# Altium footprint library jointbar.PCBLIB: 193 footprints (part 2 of 13)
Each footprint in its own frame and in the unit in brackets; x right, y up, seen from the top. Pads: shape width x height; smd on the part's side, far side on the other; paste and mask are expansions set on the pad; w line width, h text height; cw(c..) or ccw(c..) is an arc to the next point about the centre after c.
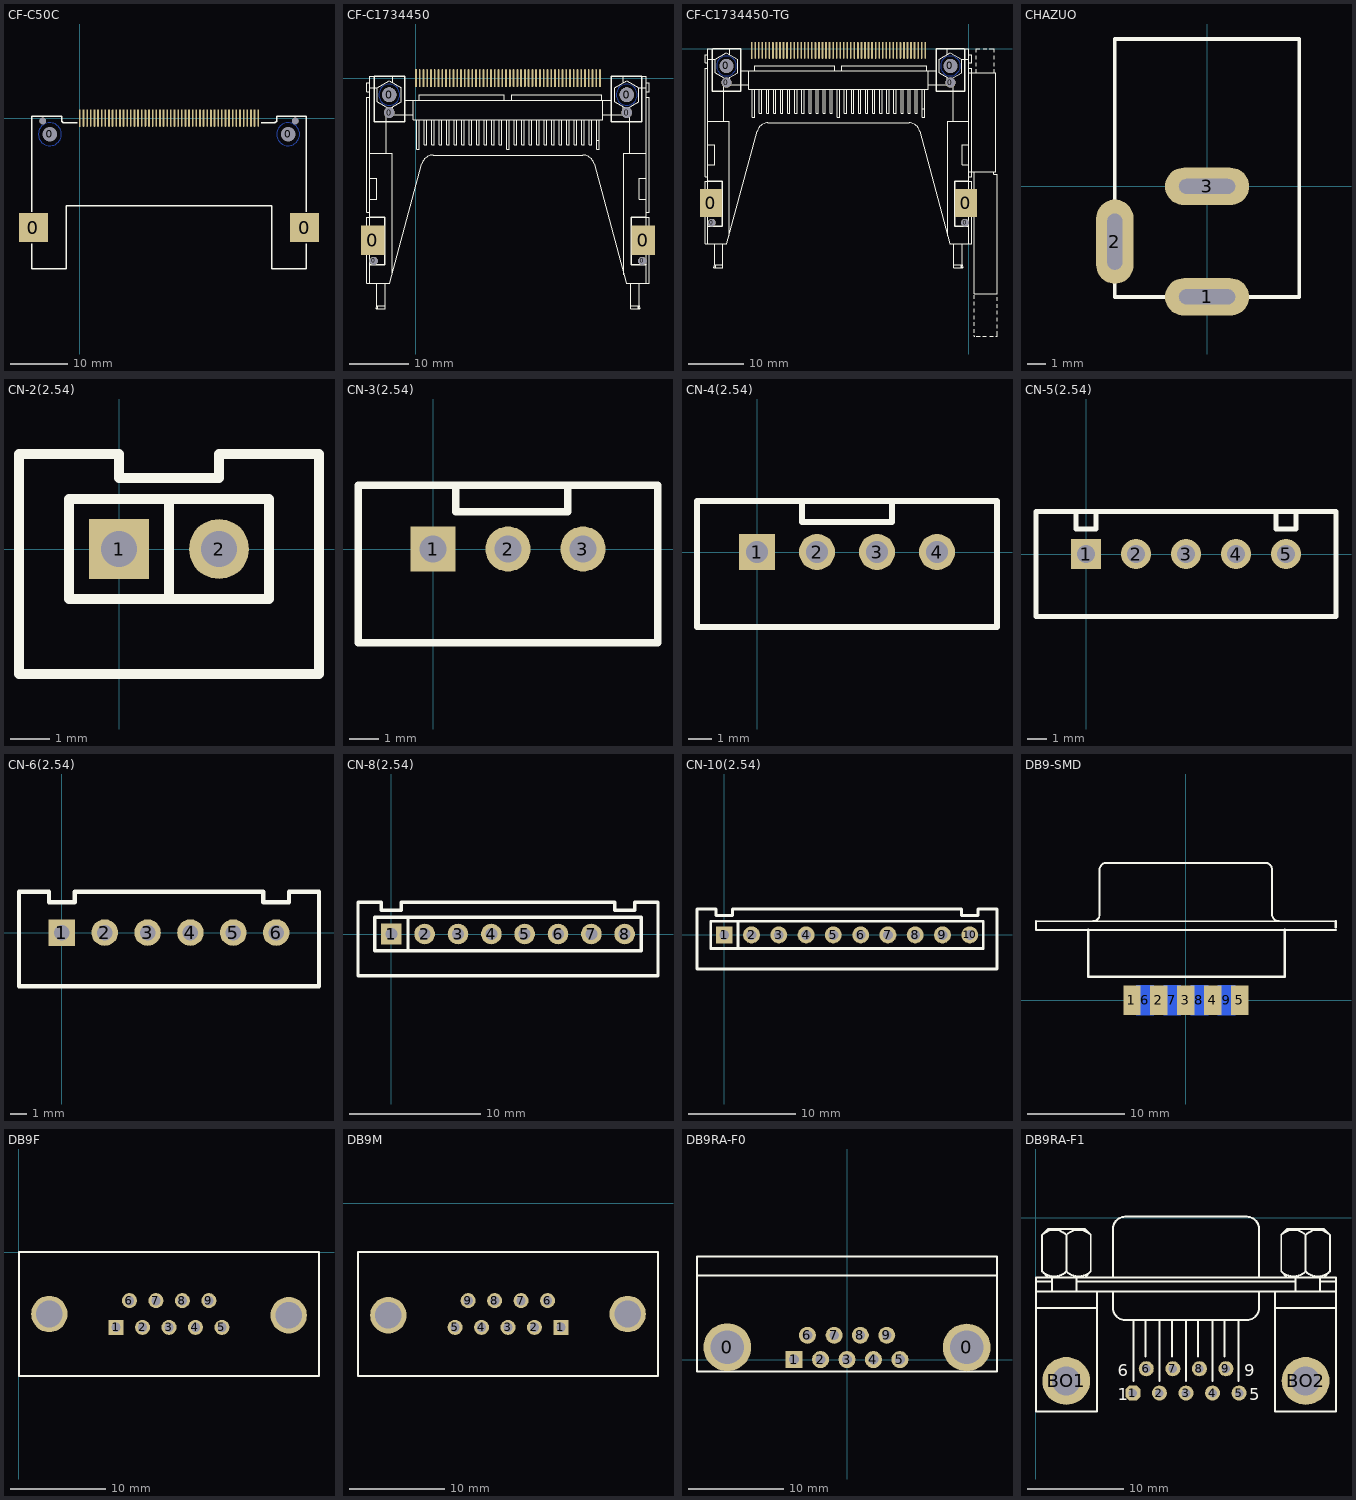
[diagram p1: the footprints below, top view; thin cyan lines are the x and y axes]

## CF-C50C [mil]
pads (56):
  rect 196.85x196.85 smd: 0(-318,-750) 0(1538,-750)
  round 45 hole 45.28: 0(-254,-20) 0(1474,-20)
  round 95 hole 98: 0(-205,-111) 0(1425,-111)
  rect 12x120 smd: 1(0,0)
  oval 12x120 smd: 2(49.81,0) 3(99.63,0) 4(149.44,0) 5(199.26,0) 6(249.07,0) 7(298.89,0) 8(348.7,0) 9(398.52,0) 10(448.33,0) 11(498.15,0) 12(547.97,0) 13(597.78,0) 14(647.6,0) 15(697.41,0) 16(747.23,0) 17(797.04,0) 18(846.86,0) 19(896.67,0) 20(946.49,0) 21(996.3,0) 22(1046.12,0) 23(1095.93,0) 24(1145.74,0) 25(1195.56,0) 26(24.91,0) 27(74.72,0) 28(124.54,0) 29(174.35,0) 30(224.17,0) 31(273.98,0) 32(323.8,0) 33(373.61,0) 34(423.43,0) 35(473.24,0) 36(523.06,0) 37(572.87,0) 38(622.69,0) 39(672.5,0) 40(722.32,0) 41(772.13,0) 42(821.95,0) 43(871.76,0) 44(921.58,0) 45(971.39,0) 46(1021.21,0) 47(1071.02,0) 48(1120.84,0) 49(1170.65,0) 50(1220.47,0)
BottomLayer:
  circle w5: c1425,-111 r78.74
  circle w5: c-205,-111 r78.74
TopOverlay:
  lines w10: -328,-860 -328,-1031.31 -91.78,-1031.31 -91.78,-600.78 1313.73,-600.78 1313.73,-1031.31 1549.95,-1031.31 1549.95,-860 ; -328,-640 -328,12 -124,12 -124,-22 -112,-34 -19,-34 ; 1240.95,-34 1333.95,-34 1345.95,-22 1345.95,12 1549.95,12 1549.95,-640

## CF-C1734450 [mil]
pads (58):
  rect 157.48x196.85 smd: 0(-287.5,-1078.72) 0(1512.82,-1078.72)
  round 55.12 hole 55.12: 0(-281.2,-1216.91) 0(1506.52,-1216.91)
  round 70.87 hole 70.87: 0(-177.89,-228.72) 0(1403.21,-228.72)
  round 95 hole 98: 0(-177.89,-110.61) 0(1403.21,-110.61)
  rect 12x120 smd: 1(0,0)
  oval 12x120 smd: 2(50,0) 3(100,0) 4(150,0) 5(200,0) 6(250,0) 7(300,0) 8(350,0) 9(400,0) 10(450,0) 11(500,0) 12(550,0) 13(600,0) 14(650,0) 15(700,0) 16(750,0) 17(800,0) 18(850,0) 19(900,0) 20(950,0) 21(1000,0) 22(1050,0) 23(1100,0) 24(1150,0) 25(1200,0) 26(25,0) 27(75,0) 28(125,0) 29(175,0) 30(225,0) 31(275,0) 32(325,0) 33(375,0) 34(425,0) 35(475,0) 36(525,0) 37(575,0) 38(625,0) 39(675,0) 40(725,0) 41(775,0) 42(825,0) 43(875,0) 44(925,0) 45(975,0) 46(1025,0) 47(1075,0) 48(1125,0) 49(1175,0) 50(1225,0)
BottomLayer:
  circle w5: c-177.89,-110.61 r70
  circle w5: c1403.21,-110.61 r70
TopOverlay:
  drawing of 189 lines, arcs and shapes, not listed

## CF-C1734450-TG [mil]
pads (58):
  rect 157.48x196.85 smd: 0(-1821.42,-1090.16) 0(-21.1,-1090.16)
  round 55.12 hole 55.12: 0(-1815.12,-1228.35) 0(-27.4,-1228.35)
  round 70.87 hole 70.87: 0(-1711.81,-240.16) 0(-130.71,-240.16)
  round 95 hole 98: 0(-1711.81,-122.05) 0(-130.71,-122.05)
  rect 12x120 smd: 1(-1533.92,-11.44)
  oval 12x120 smd: 2(-1483.92,-11.44) 3(-1433.92,-11.44) 4(-1383.92,-11.44) 5(-1333.92,-11.44) 6(-1283.92,-11.44) 7(-1233.92,-11.44) 8(-1183.92,-11.44) 9(-1133.92,-11.44) 10(-1083.92,-11.44) 11(-1033.92,-11.44) 12(-983.92,-11.44) 13(-933.92,-11.44) 14(-883.92,-11.44) 15(-833.92,-11.44) 16(-783.92,-11.44) 17(-733.92,-11.44) 18(-683.92,-11.44) 19(-633.92,-11.44) 20(-583.92,-11.44) 21(-533.92,-11.44) 22(-483.92,-11.44) 23(-433.92,-11.44) 24(-383.92,-11.44) 25(-333.92,-11.44) 26(-1508.92,-11.44) 27(-1458.92,-11.44) 28(-1408.92,-11.44) 29(-1358.92,-11.44) 30(-1308.92,-11.44) 31(-1258.92,-11.44) 32(-1208.92,-11.44) 33(-1158.92,-11.44) 34(-1108.92,-11.44) 35(-1058.92,-11.44) 36(-1008.92,-11.44) 37(-958.92,-11.44) 38(-908.92,-11.44) 39(-858.92,-11.44) 40(-808.92,-11.44) 41(-758.92,-11.44) 42(-708.92,-11.44) 43(-658.92,-11.44) 44(-608.92,-11.44) 45(-558.92,-11.44) 46(-508.92,-11.44) 47(-458.92,-11.44) 48(-408.92,-11.44) 49(-358.92,-11.44) 50(-308.92,-11.44)
BottomLayer:
  circle w5: c-130.71,-122.05 r70
  circle w5: c-1711.81,-122.05 r70
TopOverlay:
  drawing of 224 lines, arcs and shapes, not listed

## CHAZUO [mil]
pads (3):
  oval 180x80 hole 32.01 slot 120 at 0 deg: 1(-0.02,-236) 3(-0.02,-0.01)
  oval 80x180 hole 32.01 slot 120 at 90 deg: 2(-197.03,-118.01)
TopOverlay:
  lines w8: -39,-236 197,-236 197,315 -197,315 -197,-236 0,-236

## CN-2(2.54) [mil]
pads (2):
  rect 60x60 hole 36: 1(0,0)
  round 60 hole 36: 2(100,0)
TopOverlay:
  lines w10: 50,-50 50,50 ; -100,-125 -100,95 0,95 0,71 100,71 100,95 200,95 200,-125 -100,-125 ; -50,-50 -50,50 150,50 150,-50 -50,-50

## CN-3(2.54) [mil]
pads (3):
  rect 60x60 hole 36: 1(0,0)
  round 60 hole 36: 2(100,0) 3(200,0)
TopOverlay:
  lines w10: 30,85 30,50 180,50 180,85 ; -100,-125 -100,85 300,85 300,-125 -100,-125

## CN-4(2.54) [mil]
pads (4):
  rect 60x60 hole 36: 1(0,0)
  round 60 hole 36: 2(100,0) 3(200,0) 4(300,0)
TopOverlay:
  lines w10: 75,85 75,50 225,50 225,85 ; -100,-125 400,-125 400,85 -100,85 -100,-125

## CN-5(2.54) [mil]
pads (5):
  rect 60x60 hole 36: 1(0,0)
  round 60 hole 36: 2(100,0) 3(200,0) 4(300,0) 5(400,0)
TopOverlay:
  lines w10: -20,85 -20,50 20,50 20,85 ; 380,85 380,50 420,50 420,85 ; -100,-125 500,-125 500,85 -100,85 -100,-125

## CN-6(2.54) [mil]
pads (6):
  rect 62x62 hole 36: 1(0,0)
  round 62 hole 36: 2(100,0) 3(200,0) 4(300,0) 5(400,0) 6(500,0)
TopOverlay:
  lines w10: -100,-125 -100,95 -30,95 -30,71 30,71 30,95 470,95 470,71 530,71 530,95 600,95 600,-125 -100,-125

## CN-8(2.54) [mil]
pads (8):
  rect 62x62 hole 36: 1(0,0)
  round 62 hole 36: 2(100,0) 3(200,0) 4(300,0) 5(400,0) 6(500,0) 7(600,0) 8(700,0)
TopOverlay:
  lines w10: 50,-50 50,50 ; -100,-125 800,-125 800,95 730,95 730,71 670,71 670,95 30,95 30,71 -30,71 -30,95 -100,95 -100,-125 ; -50,-50 750,-50 750,50 -50,50 -50,-50

## CN-10(2.54) [mil]
pads (10):
  rect 62x62 hole 36: 1(0,0)
  round 62 hole 36: 2(100,0) 3(200,0) 4(300,0) 5(400,0) 6(500,0) 7(600,0) 8(700,0) 9(800,0) 10(900,0)
TopOverlay:
  lines w10: 50,-50 50,50 ; -100,-125 -100,95 -30,95 -30,71 30,71 30,95 870,95 870,71 930,71 930,95 1000,95 1000,-125 -100,-125 ; -50,-50 -50,50 950,50 950,-50 -50,-50

## DB9-SMD [mil]
height 100
pads (9):
  rect 70x120 smd: 1(-218.11,-0.04) 2(-109.05,-0.04) 3(0,-0.04) 4(109.06,-0.04) 5(218.11,-0.04)
  rect 70x120 smd far side: 6(-165,0.04) 7(-55,0.04) 8(55,0.04) 9(165,0.04)
TopOverlay:
  lines w7.87: -606.3,320.04 606.3,320.04 ; -605,285.04 607.6,285.04 ; -376.38,320.24 ccw(c-376.38,347.6) -349.02,347.6 -349.02,528.7 ; -348.82,528.9 cw(c-321.46,528.9) -321.46,556.26 321.46,556.26 cw(c321.46,528.9) 348.82,528.9 ; 349.02,528.7 349.02,347.6 ccw(c376.38,347.6) 376.38,320.24
  lines w10: -606.3,320.04 -606.3,286.34 -605,285.04 ; -395,285.04 -395,95.04 400,95.04 400,285.04 ; 606.3,320.04 606.3,296.34 607.6,295.04

## DB9F [mil]
pads (11):
  rect 62x62 hole 38: 1(401,-310)
  round 62 hole 38: 2(510,-310) 3(619,-310) 4(728,-310) 5(837,-310) 6(456,-200) 7(565,-200) 8(674,-200) 9(783,-200)
  round 150 hole 110: ""(126,-255) ""(1112,-260)
TopOverlay:
  lines w8: 1,-510 1237,-510 1237,0 1,0 1,-510

## DB9M [mil]
pads (11):
  rect 62x62 hole 38: 1(1038,-512)
  round 62 hole 38: 2(929,-512) 3(820,-512) 4(711,-512) 5(602,-512) 6(983,-402) 7(874,-402) 8(765,-402) 9(656,-402)
  round 150 hole 110: ""(327,-462) ""(1313,-457)
TopOverlay:
  lines w8: 202,-712 1438,-712 1438,-202 202,-202 202,-712

## DB9RA-F0 [mil]
pads (11):
  round 196.85 hole 137.79: 0(-493,51) 0(493,50)
  rect 70x70 hole 40: 1(-218,0)
  round 70 hole 40: 2(-109,0) 3(0,0) 4(109,0) 5(218,0) 6(-163,100) 7(-53,100) 8(55,100) 9(164,100)
TopOverlay:
  lines w8: -618,346.26 618,346.26 ; -618,-49.35 -618,425 618,425 618,-49.35 -618,-49.35

## DB9RA-F1 [mil]
height 100
pads (11):
  oct 62x62 hole 35: 1(400.26,-720.47)
  round 62 hole 35: 2(509.43,-720.47) 3(618.59,-720.47) 4(727.76,-720.47) 5(836.93,-720.47) 6(455.26,-620.47) 7(564.43,-620.47) 8(673.59,-620.47) 9(782.76,-620.47)
  round 196.67 hole 118.33: BO1(126.09,-670.47) BO2(1110.26,-670.47)
TopOverlay:
  lines w8: 1.93,-370.46 251.93,-370.46 ; 1.93,-303.8 1235.26,-303.8 ; 1.93,-262.13 68.59,-262.13 ; 26.84,-220.55 ccw(c76.93,-170.47) 127.01,-220.55 ; 26.84,-70.38 cw(c76.93,-120.47) 127.01,-70.38 ; 51.93,-245.47 26.93,-220.47 26.93,-70.47 51.93,-45.47 201.93,-45.47 226.93,-70.47 226.93,-220.47 201.93,-245.47 ; 68.59,-303.8 68.59,-245.47 ; 126.84,-220.55 ccw(c176.93,-170.47) 227.01,-220.55 ; 126.84,-70.38 cw(c176.93,-120.47) 227.01,-70.38 ; 126.93,-220.47 126.93,-70.47 ; 168.59,-303.8 168.59,-245.47 ; 168.59,-262.13 1068.59,-262.13 ; 251.93,-303.8 251.93,-795.47 1.93,-795.47 1.93,-245.47 1235.26,-245.47 1235.26,-795.47 985.26,-795.47 985.26,-303.8 ; 318.59,-303.8 318.59,-370.46 ccw(c368.59,-370.46) 368.59,-420.46 868.59,-420.46 ccw(c868.59,-370.46) 918.59,-370.46 918.59,-303.8 ; 318.59,-245.47 318.59,-45.47 cw(c368.59,-45.47) 368.59,4.53 868.59,4.54 cw(c868.59,-45.47) 918.59,-45.47 918.59,-245.47 ; 401.93,-670.47 401.93,-420.46 ; 451.93,-570.47 451.93,-420.46 ; 510.26,-670.47 510.26,-420.46 ; 560.26,-570.47 560.26,-420.46 ; 618.59,-670.47 618.59,-420.46 ; 668.59,-570.47 668.59,-420.46 ; 726.93,-670.47 726.93,-420.46 ; 776.93,-570.47 776.93,-420.46 ; 835.26,-670.47 835.26,-420.46 ; 985.26,-370.46 1235.26,-370.46 ; 1010.17,-220.55 ccw(c1060.26,-170.47) 1110.35,-220.55 ; 1010.17,-70.38 cw(c1060.26,-120.47) 1110.35,-70.38 ; 1035.26,-245.47 1010.26,-220.47 1010.26,-70.47 1035.26,-45.47 1185.26,-45.47 1210.26,-70.47 1210.26,-220.47 1185.26,-245.47 ; 1068.59,-303.8 1068.59,-245.47 ; 1110.17,-220.55 ccw(c1160.26,-170.47) 1210.35,-220.55 ; 1110.17,-70.38 cw(c1160.26,-120.47) 1210.35,-70.38 ; 1110.26,-220.47 1110.26,-70.47 ; 1168.59,-303.8 1168.59,-245.47 ; 1168.59,-262.13 1235.26,-262.13
  text "9" at 858.59,-650.47 h50
  text "5" at 878.59,-750.47 h50
  text "1" at 338.59,-750.47 h50
  text "6" at 338.59,-650.47 h50